# Altium footprint library transformator.PcbLib: 34 footprints (part 2 of 3)
Each footprint in its own frame and in the unit in brackets; x right, y up, seen from the top. Pads: shape width x height; smd on the part's side, far side on the other; paste and mask are expansions set on the pad; w line width, h text height; cw(c..) or ccw(c..) is an arc to the next point about the centre after c.
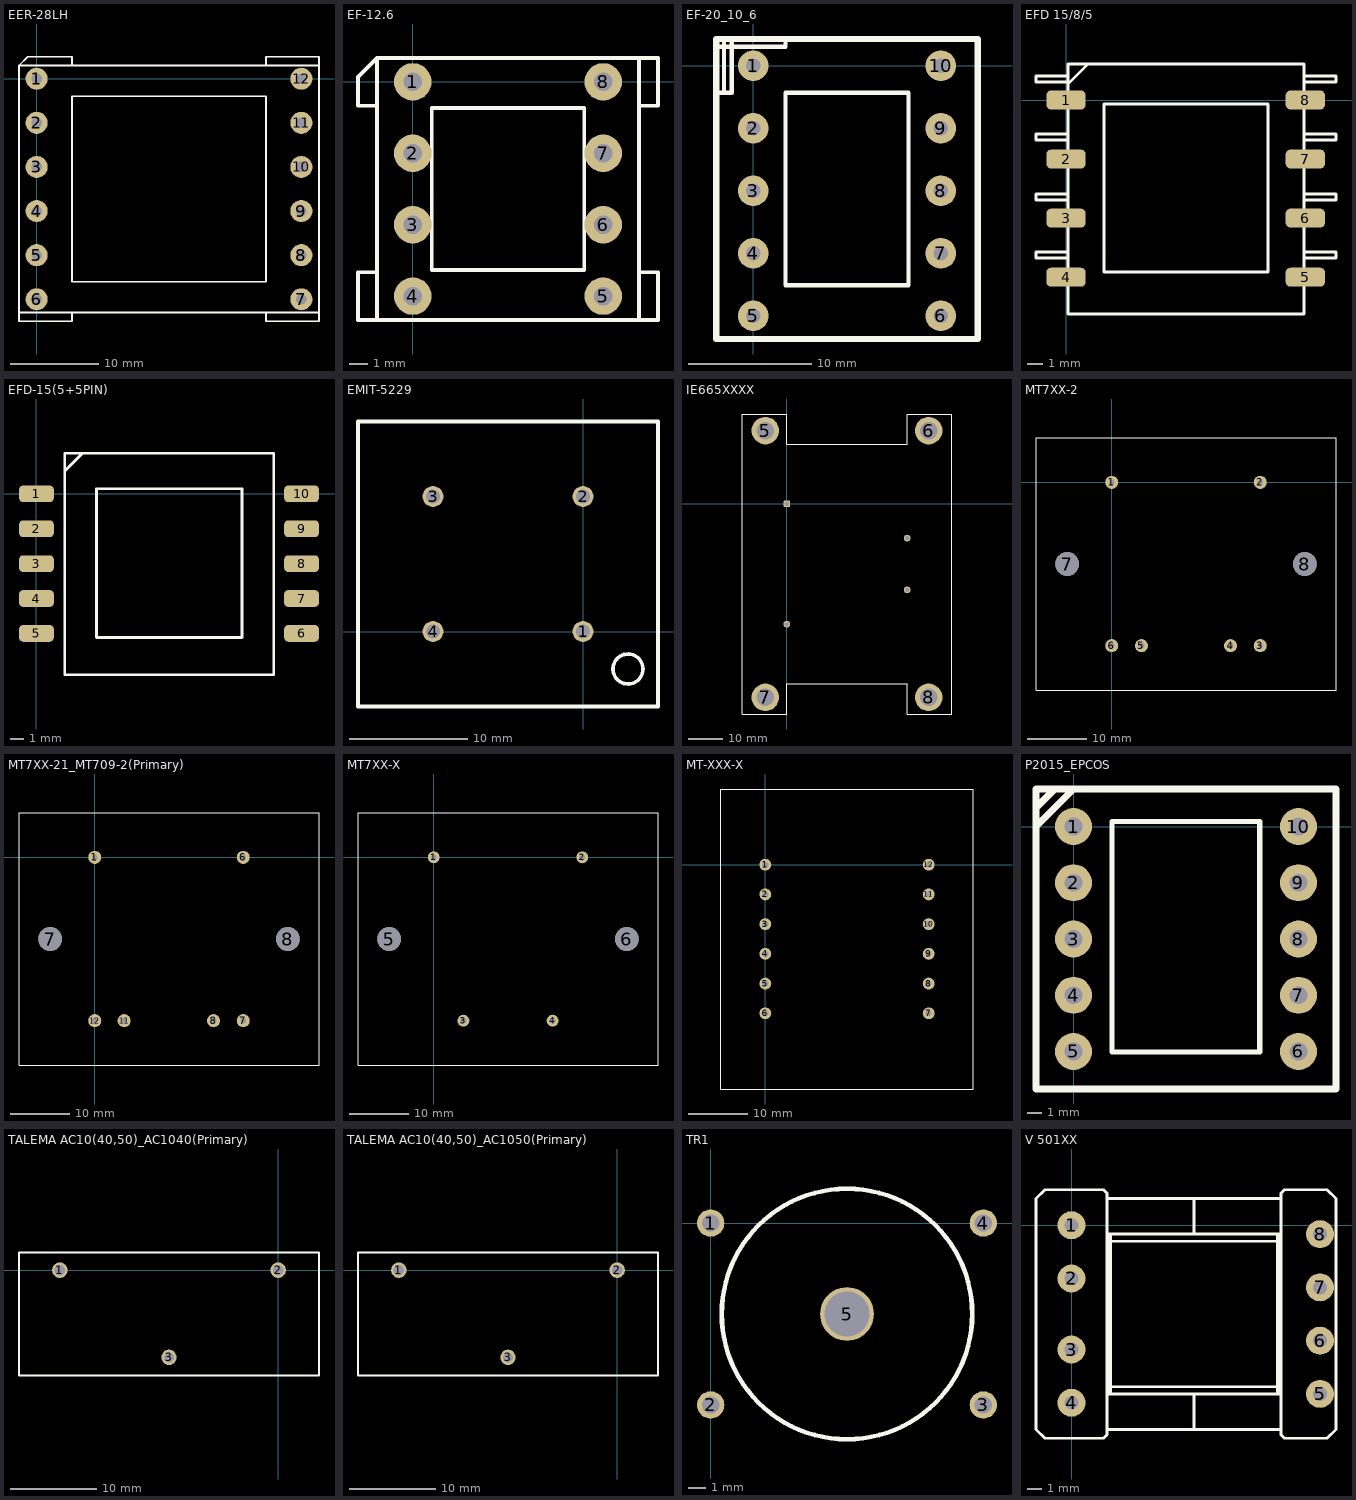
[diagram p1: the footprints below, top view; thin cyan lines are the x and y axes]

## EER-28LH [mm]
pads (12):
  round 2.5 hole 1.2: 1(0,0) 2(0,-5) 3(0,-10) 4(0,-15) 5(0,-20) 6(0,-25) 7(30,-25) 8(30,-20) 9(30,-15) 10(30,-10) 11(30,-5) 12(30,0)
Top Overlay:
  lines w0.2: 4,-26.5 4,-27.5 -2,-27.5 -2,-26.5 ; 4,1.5 4,2.5 -1,2.5 -2,1.5 ; 26,-26.5 26,-27.5 32,-27.5 32,-26.5 ; 26,1.5 26,2.5 32,2.5 32,1.5 ; -2,-26.5 32,-26.5 ; -2,-26.5 -2,1.5 ; -2,1.5 32,1.5 ; 32,-26.5 32,1.5 ; 4,-23 26,-23 26,-2 4,-2 4,-23

## EF-12.6 [mm]
pads (8):
  round 2 hole 1: 1(0,0) 2(0,-3.81) 3(0,-7.62) 4(0,-11.43) 5(10.16,-11.43) 6(10.16,-7.62) 7(10.16,-3.81) 8(10.16,0)
Top Overlay:
  lines w0.2: -1.905,-12.7 -1.905,1.27 ; -1.905,-10.16 -2.921,-10.16 -2.921,-12.7 13.081,-12.7 13.081,-10.16 12.065,-10.16 ; -1.905,-1.27 -2.921,-1.27 -2.921,0.254 -1.905,1.27 ; 12.065,-12.7 12.065,1.27 ; 12.065,-1.27 13.081,-1.27 13.081,1.27 -1.905,1.27 ; 1.016,-10.033 1.016,-1.397 9.144,-1.397 9.144,-10.033 1.016,-10.033

## EF-20_10_6 [mm]
pads (10):
  round 2.5 hole 1.2: 1(0,0) 2(0,-5.08) 3(0,-10.16) 4(0,-15.24) 5(0,-20.32) 6(15.24,-20.32) 7(15.24,-15.24) 8(15.24,-10.16) 9(15.24,-5.08) 10(15.24,0)
Top Overlay:
  lines w0.35: -3.01,-2.2 -1.76,-2.2 -1.76,2.175 ; -3.01,1.55 2.615,1.55 2.615,2.175 ; -2.385,-2.2 -2.385,2.175 ; 2.615,-17.825 12.615,-17.825 12.615,-2.2 2.615,-2.2 2.615,-17.825
  lines w0.5: -3.01,-22.2 18.24,-22.2 18.24,2.175 -3.01,2.175 -3.01,-22.2

## EFD 15/8/5 [mm]
pads (8):
  rrect50% 2.5x1.2 smd: 1(0,0) 2(0,-3.75) 3(0,-7.5) 4(0,-11.25) 5(15.2,-11.25) 6(15.2,-7.5) 7(15.2,-3.75) 8(15.2,0)
Top Overlay:
  lines w0.2: 0.127,-10.033 -1.905,-10.033 -1.905,-9.652 0.127,-9.652 ; 0.127,-6.35 -1.905,-6.35 -1.905,-5.969 0.127,-5.969 ; 0.127,-2.54 -1.905,-2.54 -1.905,-2.159 0.127,-2.159 ; 0.127,1.016 1.397,2.286 ; 0.127,1.143 -1.905,1.143 -1.905,1.524 0.127,1.524 ; 15.113,-10.033 17.145,-10.033 17.145,-9.652 15.113,-9.652 ; 15.113,-6.35 17.145,-6.35 17.145,-5.969 15.113,-5.969 ; 15.113,-2.54 17.145,-2.54 17.145,-2.159 15.113,-2.159 ; 15.113,1.143 17.145,1.143 17.145,1.524 15.113,1.524 ; 0.127,-13.589 0.127,2.286 15.113,2.286 15.113,-13.589 0.127,-13.589 ; 2.413,-10.922 2.413,-0.254 12.827,-0.254 12.827,-10.922 2.413,-10.922

## EFD-15(5+5PIN) [mm]
pads (10):
  rrect50% 2.5x1.2 smd: 1(0,0) 2(0,-2.5) 3(0,-5) 4(0,-7.5) 5(0,-10) 6(19,-10) 7(19,-7.5) 8(19,-5) 9(19,-2.5) 10(19,0)
Top Overlay:
  lines w0.2: 2.027,1.641 3.297,2.911 ; 2.027,-12.964 2.027,2.911 17.013,2.911 17.013,-12.964 2.027,-12.964 ; 4.313,-10.297 4.313,0.371 14.727,0.371 14.727,-10.297 4.313,-10.297

## EMIT-5229 [mil]
pads (4):
  round 70 hole 46: 1(0,0) 2(0,450) 3(-500,450) 4(-500,0)
Top Overlay:
  circle w12: c150,-125 r50
  lines w12: -750,-250 -750,700 250,700 250,-250 -750,-250

## IE665XXXX [mm]
pads (8):
  rrect50% 2x2 hole 1.3: 1(0,0)
  round 2 hole 1.3: 2(0,-35) 3(35,-25) 4(35,-10)
  round 8 hole 5: 5(-6.25,21.25) 6(41.25,21.25) 7(-6.25,-56.25) 8(41.25,-56.25)
Top Overlay:
  lines w0.025: -13,-61.1 -13,26.1 0,26.1 0,17.3 7.15,17.3 17.5,17.3 35,17.3 35,23.6 35,26.1 48,26.1 48,-61.1 35,-61.1 35,-52.3 27.85,-52.3 17.5,-52.3 0,-52.3 0,-58.6 0,-61.1 -13,-61.1
Keep-Out Layer:
  lines w0.025: 0,17.3 0,17.6 ; 35,-52.6 35,-52.3

## MT7XX-2 [mm]
pads (8):
  round 2.2 hole 1: 1(0,0) 2(25,0) 3(25,-27.5) 4(20,-27.5) 5(5,-27.5) 6(0,-27.5)
  round 4 hole 4: 7(-7.5,-13.75) 8(32.5,-13.75)
Top Overlay:
  lines w0.025: -12.75,-35 -12.75,7.5 37.75,7.5 37.75,-35 -12.75,-35

## MT7XX-21_MT709-2(Primary) [mm]
pads (8):
  round 2.2 hole 1: 1(0,0) 6(25,0) 7(25,-27.5) 8(20,-27.5) 11(4.95,-27.5) 12(0,-27.5)
  round 4 hole 4: 7(-7.5,-13.75) 8(32.5,-13.75)
Top Overlay:
  lines w0.025: -12.75,-35 -12.75,7.5 37.75,7.5 37.75,-35 -12.75,-35

## MT7XX-X [mm]
pads (6):
  round 2 hole 1: 1(0,0) 2(25,0) 3(5,-27.5) 4(20,-27.5)
  round 4 hole 4: 5(-7.5,-13.75) 6(32.5,-13.75)
Top Overlay:
  lines w0.025: -12.75,-35 -12.75,7.5 37.75,7.5 37.75,-35 -12.75,-35

## MT-XXX-X [mm]
pads (12):
  round 2 hole 1: 1(0,0) 2(0,-5) 3(0,-10) 4(0,-15) 5(0,-20) 6(0,-25) 7(27.5,-25) 8(27.5,-20) 9(27.5,-15) 10(27.5,-10) 11(27.5,-5) 12(27.5,0)
Top Overlay:
  lines w0.2: -7.5,-37.75 -7.5,12.75 35,12.75 35,-37.75 -7.5,-37.75

## P2015_EPCOS [mm]
pads (10):
  round 2.5 hole 1.2: 1(0,0) 2(0,-3.81) 3(0,-7.62) 4(0,-11.43) 5(0,-15.24) 6(15.24,-15.24) 7(15.24,-11.43) 8(15.24,-7.62) 9(15.24,-3.81) 10(15.24,0)
Top Overlay:
  lines w0.35: 2.615,-15.285 12.615,-15.285 12.615,0.34 2.615,0.34 2.615,-15.285
  lines w0.5: -2.54,0 0,2.54 ; -2.54,1.27 -1.27,2.54 ; -2.54,-17.78 17.78,-17.78 17.78,2.54 -2.54,2.54 -2.54,-17.78
3D body "User Library-EF20.step": height 14.04, standoff -2.56, extent -2.625,-17.85 17.875,2.65

## TALEMA AC10(40,50)_AC1040(Primary) [mm]
pads (3):
  round 1.8 hole 1.2: 1(-25.4,0) 2(0,0) 3(-12.7,-10.15)
Top Overlay:
  lines w0.2: -30.15,-12.25 -30.15,2.05 4.75,2.05 4.75,-12.25 -30.15,-12.25

## TALEMA AC10(40,50)_AC1050(Primary) [mm]
pads (3):
  round 1.8 hole 1.2: 1(-25.4,0) 2(0,0) 3(-12.7,-10.15)
Top Overlay:
  lines w0.2: -30.15,-12.25 -30.15,2.05 4.75,2.05 4.75,-12.25 -30.15,-12.25

## TR1 [mil]
pads (5):
  round 60 hole 38: 1(0,0) 2(0,-400) 3(600,-400) 4(600,0)
  round 118.11 hole 98.43: 5(300,-200)
Top Overlay:
  circle w10: c300,-200 r275.59

## V 501XX [mm]
pads (8):
  round 2 hole 1: 1(0,0) 2(0,-3.81) 3(0,-8.89) 4(0,-12.7) 5(17.78,-12.065) 6(17.78,-8.255) 7(17.78,-4.445) 8(17.78,-0.635)
Top Overlay:
  lines w0.2: 2.54,-14.605 14.986,-14.605 ; 2.54,-12.065 14.986,-12.065 ; 2.54,-0.635 14.986,-0.635 ; 2.54,1.905 14.986,1.905 ; 2.667,-12.065 2.667,-0.635 ; 2.794,-12.065 2.794,-0.635 ; 2.794,-11.557 14.732,-11.557 ; 2.794,-1.143 14.732,-1.143 ; 8.763,-14.605 8.763,-12.065 ; 8.763,-0.635 8.763,1.905 ; 14.732,-12.065 14.732,-0.635 ; 14.859,-12.065 14.859,-0.635 ; -2.54,-14.605 -1.905,-15.24 2.286,-15.24 2.54,-14.986 2.54,2.286 2.286,2.54 -1.905,2.54 -2.54,1.905 -2.54,-14.605 ; 14.986,-14.986 14.986,2.286 15.24,2.54 18.288,2.54 18.923,1.905 18.923,-14.605 18.288,-15.24 15.24,-15.24 14.986,-14.986